# EAGLE library part µPD7004 (library pm6)
Analog to digital converters
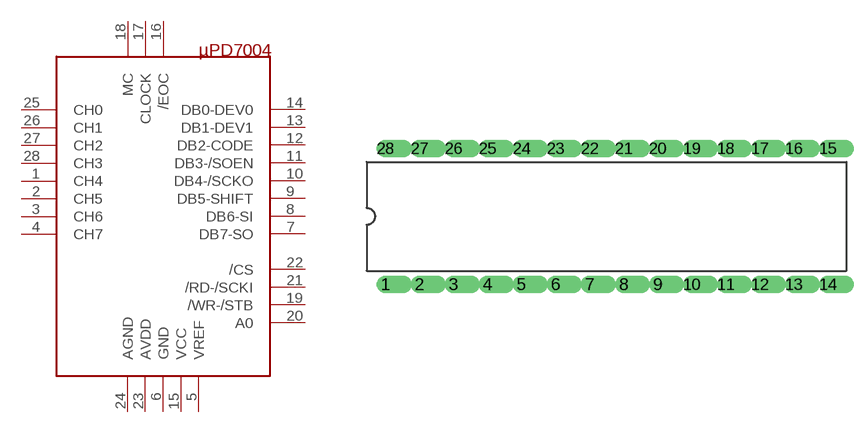
[diagram p1: symbol with the pads of DIL28-3; footprint DIL28-3]

Designator prefix -

## µPD7004  [DIL28-3]
1  CH4  in
2  CH5  in
3  CH6  in
4  CH7  in
5  VREF  in
6  GND  pwr
7  DB7-SO
8  DB6-SI
9  DB5-SHIFT
10  DB4-/SCKO
11  DB3-/SOEN
12  DB2-CODE
13  DB1-DEV1
14  DB0-DEV0
15  VCC  pwr
16  /EOC  out
17  CLOCK  in
18  MC  in
19  /WR-/STB  in
20  A0  in
21  /RD-/SCKI  in
22  /CS  in
23  AVDD  pwr
24  AGND  pwr
25  CH0  in
26  CH1  in
27  CH2  in
28  CH3  in

## Footprint DIL28-3 (pad centres in mm)
Dual In Line
drill 0.813 offset: 1 -16.51,-5.08; 2 -13.97,-5.08; 3 -11.43,-5.08; 4 -8.89,-5.08; 5 -6.35,-5.08; 6 -3.81,-5.08; 7 -1.27,-5.08; 8 1.27,-5.08; 9 3.81,-5.08; 10 6.35,-5.08; 11 8.89,-5.08; 12 11.43,-5.08; 13 13.97,-5.08; 14 16.51,-5.08; 15 16.51,5.08; 16 13.97,5.08; 17 11.43,5.08; 18 8.89,5.08; 19 6.35,5.08; 20 3.81,5.08; 21 1.27,5.08; 22 -1.27,5.08; 23 -3.81,5.08; 24 -6.35,5.08; 25 -8.89,5.08; 26 -11.43,5.08; 27 -13.97,5.08; 28 -16.51,5.08